# Altium schematic symbol library BSZ097N04LS G.SchLib: 1 symbol
Pins are listed as number, name and electrical type; pins without a type are passive.

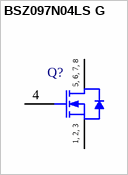
[diagram p0: symbol BSZ097N04LS G]

## BSZ097N04LS G
designator Q?
N-Channel OptiMOS 3 Power-Transistor, 40 V VDS, 40 A ID, -55 to 150 degC, PG-TSDSON-8-1, Reel, Green; Manufacturer: Infineon; PartNumber: BSZ097N04LS G; Green: TRUE; ID (max): 40 A; IDpuls (max): 160 A; Polarity: N; Ptot (max): 35 W; QG: 8.6 nC; RDS (on) (max): 9.7 mOhm; RDS (on) (max) (@4.5V): 14.2 mOhm; Rth: 3.6 K/W; RthJA (max): 60 K/W; VDS (max): 40 V; VGS(th) (max): 2 V; VGS(th) (min): 1.2 V; DatasheetVersion: Rev. 2.0; PackageVersion: Rev. 01, 03/2007; PackageReference: PG-TSDSON-8-1; PackageDescription: 8-Pin Plastic (Green) Thin Dual Small Outline Non-Leaded Package, 3.3 x 3.3 mm Body, 0.65 mm Pitch; Supplier 1: Digi-Key; Supplier Part Number 1: BSZ097N04LSGINTR-ND; Supplier 2: Digi-Key; Supplier Part Number 2: BSZ097N04LSGINCT-ND; Supplier 3: Digi-Key; Supplier Part Number 3: BSZ097N04LSGINDKR-ND; Supplier 4: Farnell; Supplier Part Number 4: 1775501; Supplier 5: Newark; Supplier Part Number 5: 60R2538; Supplier 6: Mouser; Supplier Part Number 6: 726-BSZ097N04LSG; Halogen-free: TRUE; Packing: Reel; RthJC (max): 3.6 K/W; Mounting Technology: Surface Mount; ComponentLink1Description: Manufacturer URL; ComponentLink1URL: http://www.infineon.com/; ComponentLink2Description: Datasheet; ComponentLink2URL: http://www.infineon.com/dgdl/BSZ097N04LSG_rev2.pdf?folderId=db3a3043163797a6011643468e7505a4&fileId=db3a3043163797a6011643be1d53068c; ComponentLink3Description: Package Specification; ComponentLink3URL: http://www.infineon.com/dgdl/BSZ100N06LS3_rev2.3.pdf?folderId=db3a30431ddc9372011ebafa04517f8b&fileId=db3a30431ddc9372011ebb132c97000a
footprint INF-PG-TSDSON-8-1_A_V (TSDSON, 8-Leads, Body 3.3x3.3mm, Pitch 0.65mm)
pins: 1 SOURCE, 2 SOURCE, 3 SOURCE, 4 GATE, 5 DRAIN, 6 DRAIN, 7 DRAIN, 8 DRAIN
text: 5, 6, 7, 8; 1, 2, 3